# EAGLE library part ISO1050DUB (library logic-supply)
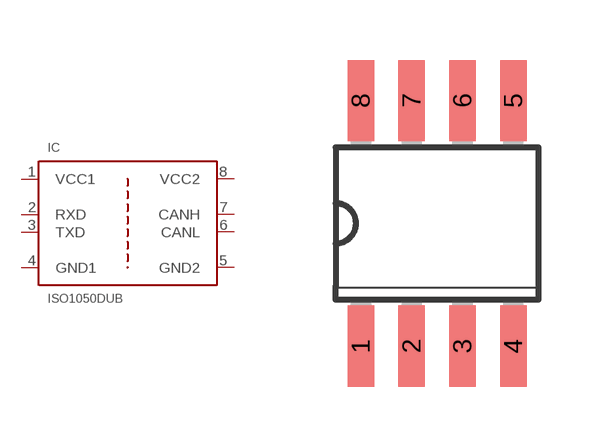
[diagram p41: symbol with the pads of SO08; footprint SO08]

Designator prefix IC

## ISO1050DUB  [SO08]
1  VCC1  pwr
2  RXD  out
3  TXD  in
4  GND1  pwr
5  GND2  pwr
6  CANL
7  CANH
8  VCC2  pwr

## Footprint SO08 (pad centres in mm)
Small Outline Package SOIC 150 mil
smd 0.66 x 2.032: 1 -1.905,-3.073; 2 -0.635,-3.073; 3 0.635,-3.073; 4 1.905,-3.073; 5 1.905,3.073; 6 0.635,3.073; 7 -0.635,3.073; 8 -1.905,3.073